# Altium integrated library Accumulator_MGMT_Sys.IntLib: 73 symbols (part 2 of 2)
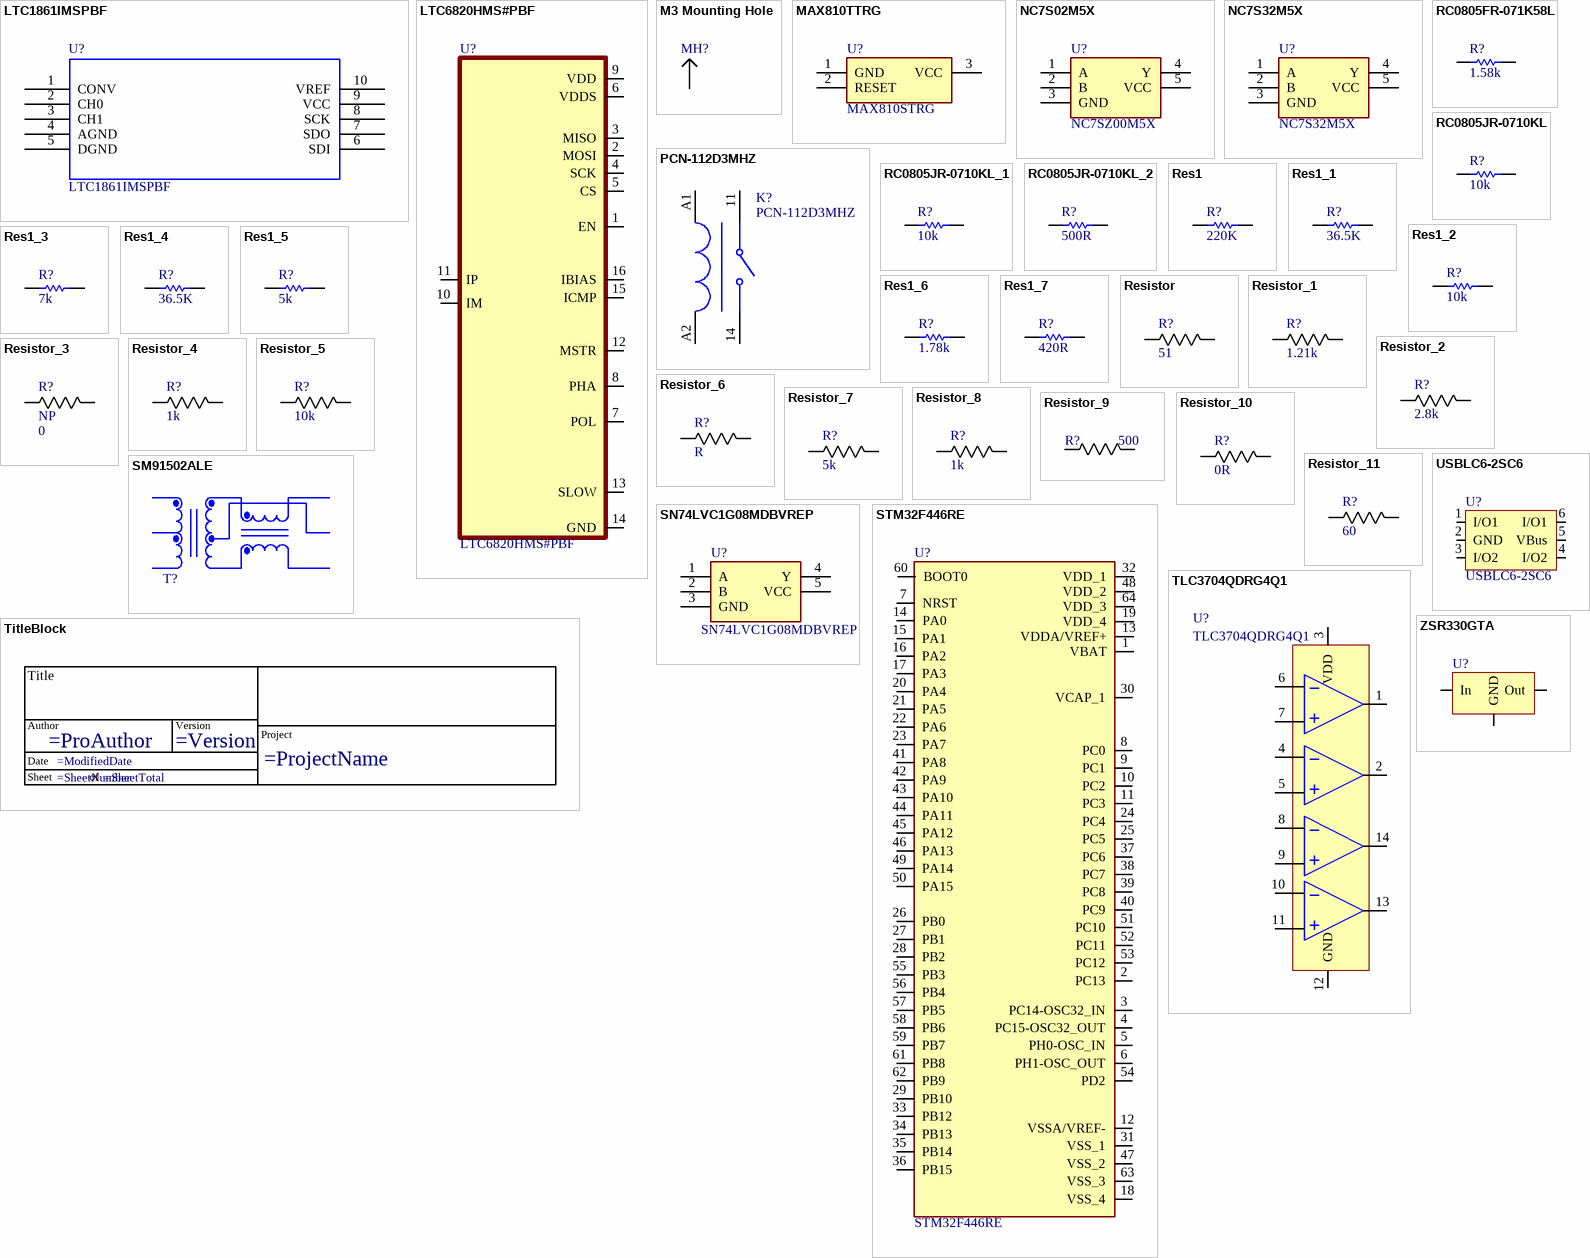
[diagram p2: symbols LTC1861IMSPBF to ZSR330GTA]

## USBLC6-2SC6
designator U?
TVS DIODE 5.25V 17V SOT23-6; Manufacturer: STMicroelectronics; Direction: Unidirectional,Bidirectional; Capacitance: 3.5pF; Operating Supply Voltage: 1.1V; Number of Channels: 2; Breakdown Voltage: 6V; Power Line Protection: Yes; Test Current: 1mA; Max Reverse Leakage Current: 150nA; Peak Pulse Current: 5A; Element Configuration: Dual; Data Rate: 480Mbps; Number of Elements: 1; Working Voltage: 5V; Supplier 1: RSComponents; Manufacturer Part Number: USBLC6-2SC6; RoHS: Yes; Category: TVS Diodes; Stock 1: 1; Pricing 1: 10=0.61400, 50=0.57700, 100=0.54700, 250=0.51600, 500=0.49000 (USD); Mount: Surface Mount; Case/Package: SOT-23; Number of Pins: 6; Contact Plating: Tin,Matte; Min Operating Temperature: -40°C; Max Operating Temperature: 125°C; Clamping Voltage: 17V; Packaging: Tape and Reel; Package Quantity: 3000; Termination: SMD/SMT; Number of Bidirectional Channels: 2; Reverse Standoff Voltage: 5.25V; Min Breakdown Voltage: 6V; ESD Protection: Yes; Leakage Current: 150nA; Series: USB; Reverse Breakdown Voltage: 6V; Polarity: Unidirectional,Bidirectional; Max Breakdown Voltage: 6V; Clamping Voltage-Max: 17V; Length: 3.05mm; Width: 1.75mm; Height: 1.3mm; Depth: 1.75mm; Radiation Hardening: No; REACH SVHC: No SVHC; Lead Free: Lead Free; RoHS Compliant: Yes; ComponentLink1URL: https://datasheet.ciiva.com/1268/1690354-1268384.pdf?src-supplier=Element14; ComponentLink1Description: https://datasheet.ciiva.com/1268/1690354-1268384.pdf?src-supplier=Element14; ComponentLink2URL: https://datasheet.ciiva.com/4508/cd00050750-113117-4508433.pdf?src-supplier=Mouser; ComponentLink2Description: https://datasheet.ciiva.com/4508/cd00050750-113117-4508433.pdf?src-supplier=Mouser; ComponentLink3URL: https://datasheet.ciiva.com/15143/getdatasheetpartid-148465-15143789.pdf?src-supplier=Verical; ComponentLink3Description: https://datasheet.ciiva.com/15143/getdatasheetpartid-148465-15143789.pdf?src-supplier=Verical; ComponentLink4URL: https://datasheet.ciiva.com/26787/usblc6-2sc6-26787908.pdf?src-supplier=IIIC; ComponentLink4Description: https://datasheet.ciiva.com/26787/usblc6-2sc6-26787908.pdf?src-supplier=IIIC; ComponentLink5URL: https://datasheet.ciiva.com/16200/cd00050750-16200026.pdf?src-supplier=Future+Electronics; ComponentLink5Description: https://datasheet.ciiva.com/16200/cd00050750-16200026.pdf?src-supplier=Future+Electronics; ComponentLink6URL: https://datasheet.ciiva.com/41444/001184109-da-01-en-ic-esd-protecti-usblc6-2sc6-sot-23-6-stm-41444156.pdf?src-supplier=Conrad; ComponentLink6Description: https://datasheet.ciiva.com/41444/001184109-da-01-en-ic-esd-protecti-usblc6-2sc6-sot-23-6-stm-41444156.pdf?src-supplier=Conrad; Supplier Part Number 1: 6247693
footprint USBLC6-2SC6 (SOT-23-6)
footprint USBLC6-2SC6 (SOT-23-6)
pins: 1 I/O1, 2 GND, 3 I/O2, 4 I/O2, 5 VBus, 6 I/O1

## ZSR330GTA
designator U?  (value not drawn)
Standard Regulator Pos 3.3V 0.2A 4-Pin(3+Tab) SOT-223 T/R; Manufacturer: Diodes Zetex; Output Type: Fixed; Max Output Current: 200mA; Number of Outputs: 1; Max Input Voltage: 20V; Min Input Voltage: 5.3V; Max Power Dissipation: 2W; Polarity: Positive; Quiescent Current: 600uA; Accuracy: 2.5%; Power Supply Rejection Ratio (PSRR): 64dB; Supplier 1: RSComponents; Manufacturer Part Number: ZSR330GTA; RoHS: No; Category: Voltage Regulators - Linear; Stock 1: 90; Pricing 1: 5=1.13900, 25=0.99200, 50=0.94200, 250=0.74500, 500=0.66700, 5=0.82000, 25=0.71400, 50=0.67800, 250=0.53600, 500=0.48000 (USD); Mount: Surface Mount; Case/Package: SOT-223; Weight: 0.000282oz; Min Operating Temperature: -55°C; Max Operating Temperature: 125°C; Output Voltage: 3.3V; Output Voltage Accuracy: 2.5%; Tolerance: 2.5%; Power Rating: 2W; Packaging: Tape and Reel; Output Current: 200mA; Package Quantity: 1000; Number of Regulators: 1; Reference Voltage: 3.3V; Power Dissipation: 2W; Length: 6.7mm; Width: 3.7mm; Height: 1.65mm; Radiation Hardening: No; REACH SVHC: No SVHC; Lead Free: Lead Free; ComponentLink1URL: https://datasheet.ciiva.com/4882/zsr-91730-4882775.pdf?src-supplier=Mouser; ComponentLink1Description: https://datasheet.ciiva.com/4882/zsr-91730-4882775.pdf?src-supplier=Mouser; ComponentLink2URL: https://datasheet.ciiva.com/8240/zsr-8240251.pdf?src-supplier=Avnet; ComponentLink2Description: https://datasheet.ciiva.com/8240/zsr-8240251.pdf?src-supplier=Avnet
footprint ZSR330GTA (3.3V 200mA LVR)
pins: 1 Out, 2 GND, 3 In, 4 GND